# EAGLE library part 6581 (library 326298_rev_a)
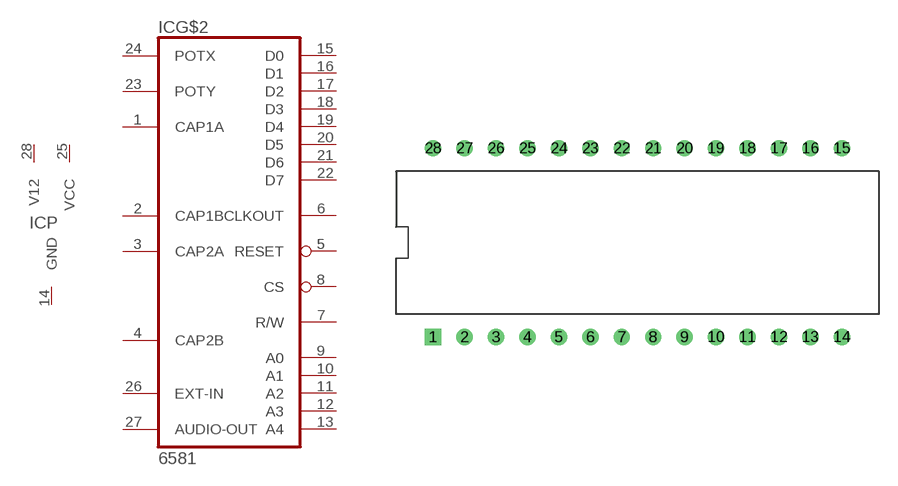
[diagram p8: symbol with the pads of DIL28; footprint DIL28]

Designator prefix IC; gates P=PWR3 G$2=6581

## 6581  [DIL28]
1  G$2:CAP1A  in
2  G$2:CAP1B  in
3  G$2:CAP2A  in
4  G$2:CAP2B  in
5  G$2:RESET  in
6  G$2:CLKOUT  in
7  G$2:R/W  in
8  G$2:CS  in
9  G$2:A0  in
10  G$2:A1  in
11  G$2:A2  in
12  G$2:A3  in
13  G$2:A4  in
14  P:GND  pwr
15  G$2:D0  hiz
16  G$2:D1  hiz
17  G$2:D2  hiz
18  G$2:D3  hiz
19  G$2:D4  hiz
20  G$2:D5  hiz
21  G$2:D6  hiz
22  G$2:D7  hiz
23  G$2:POTY  in
24  G$2:POTX  in
25  P:VCC  pwr
26  G$2:EXT-IN  in
27  G$2:AUDIO-OUT  out
28  P:V12  pwr

## Footprint DIL28 (pad centres in mm)
Dual In Line Package
drill 0.813 square: 1 -16.51,-7.62
drill 0.813: 2 -13.97,-7.62; 3 -11.43,-7.62; 4 -8.89,-7.62; 5 -6.35,-7.62; 6 -3.81,-7.62; 7 -1.27,-7.62; 8 1.27,-7.62; 9 3.81,-7.62; 10 6.35,-7.62; 11 8.89,-7.62; 12 11.43,-7.62; 13 13.97,-7.62; 14 16.51,-7.62; 15 16.51,7.62; 16 13.97,7.62; 17 11.43,7.62; 18 8.89,7.62; 19 6.35,7.62; 20 3.81,7.62; 21 1.27,7.62; 22 -1.27,7.62; 23 -3.81,7.62; 24 -6.35,7.62; 25 -8.89,7.62; 26 -11.43,7.62; 27 -13.97,7.62; 28 -16.51,7.62